# Altium footprint library 19C2830103-JOB.PcbLib: 69 footprints (part 5 of 6)
Each footprint in its own frame and in the unit in brackets; x right, y up, seen from the top. Pads: shape width x height; smd on the part's side, far side on the other; paste and mask are expansions set on the pad; w line width, h text height; cw(c..) or ccw(c..) is an arc to the next point about the centre after c.
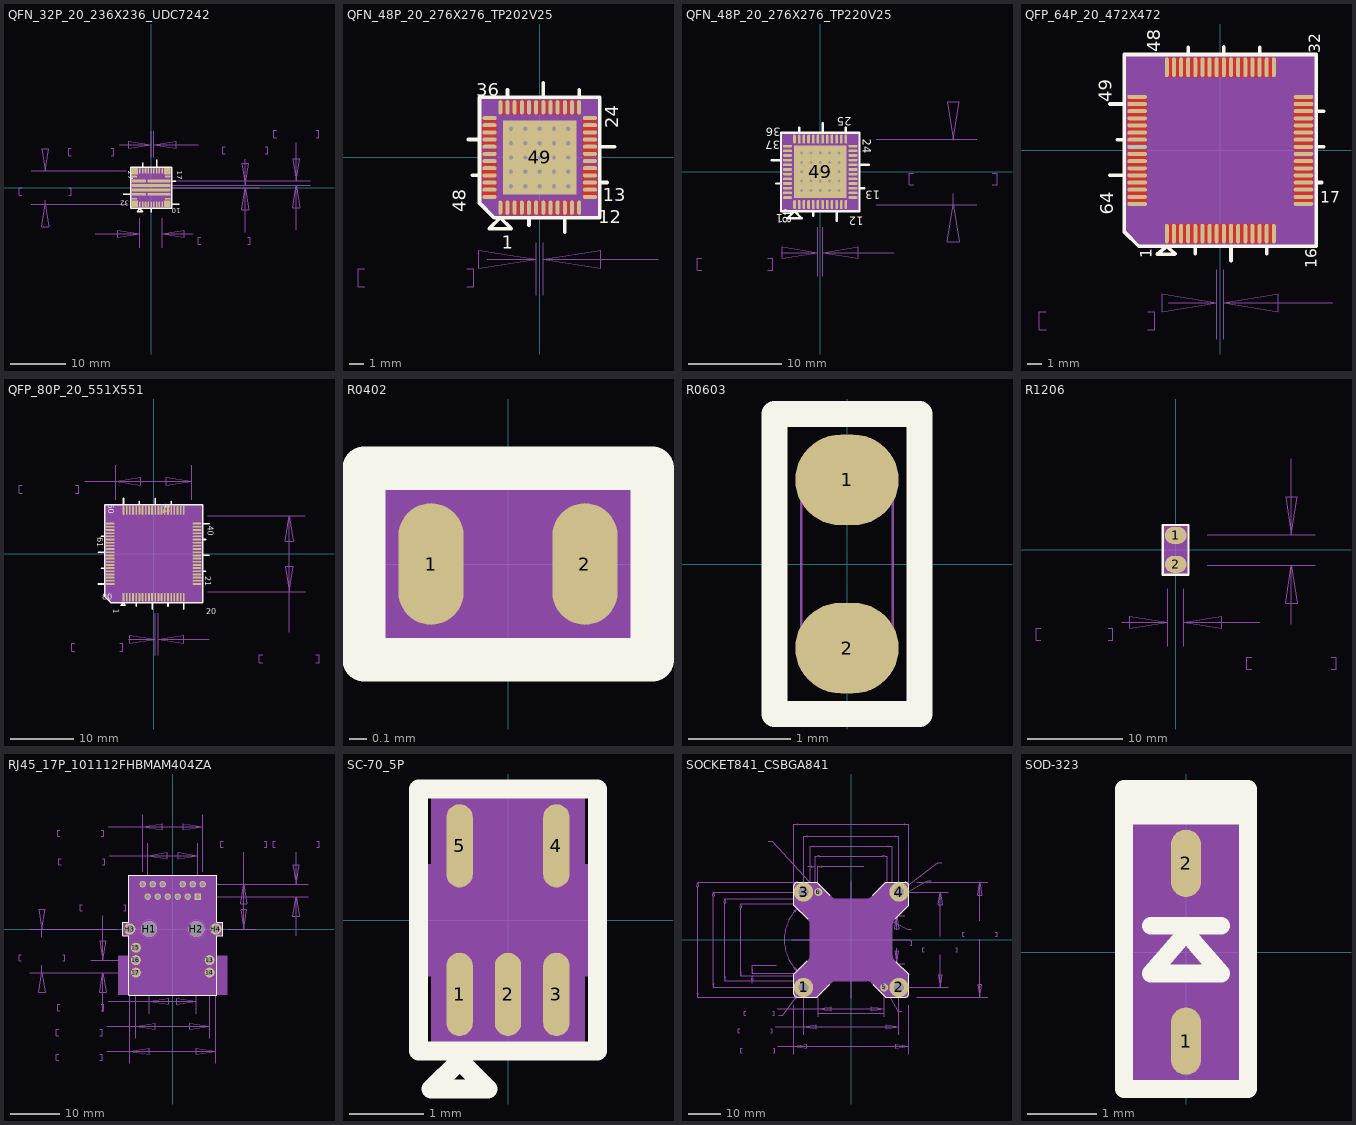
[diagram p4: the footprints below, top view; thin cyan lines are the x and y axes]

## QFN_32P_20_236X236_UDC7242 [mil] "QFN_32P_20_236X236_UDC7242"
pads (32):
  oval 11x39 smd: 1(-78.74,-118.11) 2(-59.06,-118.11) 3(-39.37,-118.11) 4(-19.69,-118.11) 5(0,-118.11) 6(19.69,-118.11) 7(39.37,-118.11) 8(59.06,-118.11) 9(78.74,-118.11) 18(78.74,118.11) 19(59.06,118.11) 20(39.37,118.11) 21(19.69,118.11) 22(0,118.11) 23(-19.69,118.11) 24(-39.37,118.11) 25(-59.06,118.11) 26(-78.74,118.11)
  rect 45x45 smd: 10(115.17,-115.17) 17(115.17,115.17) 27(-115.17,115.17) 32(-115.17,-115.17)
  oval 39x11 smd: 11(118.11,-78.74) 16(118.11,78.74) 28(-118.11,78.74) 31(-118.11,-78.74)
  oval 164x20 smd: 12(55.61,-47.24) 15(55.61,47.24)
  oval 275x20 smd: 13(0,-15.75) 14(0,15.75)
  oval 102x20 smd: 29(-86.61,47.24) 30(-86.61,-47.24)
Top Overlay:
  lines w10: -197.56,-48.06 -145.64,-48.06 ; -59.08,145.73 -59.08,174.89 ; 0.33,-174.45 0.33,-145.3 ; 39.29,145.61 39.29,197.53 ; 145.7,-116.94 197.63,-116.94 ; 145.71,46.92 174.87,46.92 ; -145.61,-145.61 -135.61,-145.61 145.61,-145.61 145.61,-135.61 145.61,145.61 135.61,145.61 -145.61,145.61 -145.61,-145.61 ; -98.74,-170.61 -58.74,-170.61 -78.74,-150.61 -98.74,-170.61
  text "17" at 183.8,120 h36
  text "10" at 208.8,-145 h36
  text "27" at -161.2,120 h36
  text "32" at -156.2,-93 h36
  text ".Designator" at -151.8,27 h36
Mechanical 15:
  text "19" at 79.22,118.11 h25.2
  text "7" at 49.45,-118.11 h25.2
  text "25" at -38.9,118.11 h25.2
  text "2" at -48.98,-118.11 h25.2
  text "1" at -68.66,-118.11 h25.2
  text "9" at 88.82,-118.11 h25.2
  text "29" at -46.29,47.24 h25.2
  text "30" at -46.29,-47.24 h25.2
  text "27" at -74.85,115.17 h25.2
  text "28" at -77.79,78.74 h25.2
  text "32" at -74.85,-115.17 h25.2
  text "31" at -77.79,-78.74 h25.2
  text "26" at -58.58,118.11 h25.2
  text "13" at 40.32,-15.75 h25.2
  text "4" at -9.61,-118.11 h25.2
  text "3" at -29.29,-118.11 h25.2
  text "5" at 10.08,-118.11 h25.2
  text "22" at 20.16,118.11 h25.2
  text "23" at 0.47,118.11 h25.2
  text "24" at -19.21,118.11 h25.2
  text "14" at 40.32,15.75 h25.2
  text "20" at 59.53,118.11 h25.2
  text "6" at 29.77,-118.11 h25.2
  text "12" at 95.93,-47.24 h25.2
  text "10" at 155.49,-115.17 h25.2
  text "11" at 158.43,-78.74 h25.2
  text "8" at 69.14,-118.11 h25.2
  text "15" at 95.93,47.24 h25.2
  text "17" at 155.49,115.17 h25.2
  text "16" at 158.43,78.74 h25.2
  text "21" at 39.85,118.11 h25.2
  text "18" at 98.9,118.11 h25.2
Mechanical 16:
  pour cut-out: -145.61,-145.61 145.61,-145.61 145.61,145.61 -145.61,145.61
  region: -118.11,-118.11 118.11,-118.11 118.11,118.11 -118.11,118.11
  lines w1: -915.55,-52.02 -934.65,-52.02 -934.65,-2.02 -915.55,-2.02 ; -847.84,-118.11 -177.17,-118.11 ; -847.84,118.11 -177.17,118.11 ; -749.42,-89.52 -749.42,-118.11 ; -749.42,135.48 -749.42,118.11 ; -583.29,-52.02 -564.19,-52.02 -564.19,-2.02 -583.29,-2.02 ; -564.08,227.34 -583.17,227.34 -583.17,277.34 -564.08,277.34 ; -393.7,-325.14 -78.74,-325.14 ; -282.99,227.34 -263.9,227.34 -263.9,277.34 -282.99,277.34 ; -226.4,302.34 0,302.34 ; -78.74,-423.56 -78.74,-216.54 ; 0,216.54 0,400.77 ; 19.69,216.54 19.69,400.77 ; 78.74,-423.56 78.74,-216.54 ; 98.99,0.17 764.83,0.17 ; 154.04,47.24 1126.89,47.24 ; 295.15,-325.14 78.74,-325.14 ; 334.65,302.34 19.69,302.34 ; 351.74,-400.14 332.65,-400.14 332.65,-350.14 351.74,-350.14 ; 525.87,239.11 506.77,239.11 506.77,289.11 525.87,289.11 ; 666.41,-314.79 666.41,0.17 ; 666.41,201.61 666.41,15.75 ; 684,-400.14 703.1,-400.14 703.1,-350.14 684,-350.14 ; 764.83,15.75 98.43,15.75 1126.89,15.75 ; 806.95,239.11 826.05,239.11 826.05,289.11 806.95,289.11 ; 887.92,354.5 868.82,354.5 868.82,404.5 887.92,404.5 ; 1028.46,-299.21 1028.46,15.75 ; 1028.46,317 1028.46,47.24 ; 1169,354.5 1188.1,354.5 1188.1,404.5 1169,404.5 ; -749.42,-118.11 -724.81,-275.59 -774.02,-275.59 -749.42,-118.11 ; -749.42,118.11 -774.02,275.59 -724.81,275.59 -749.42,118.11 ; -78.74,-325.14 -236.22,-349.74 -236.22,-300.53 -78.74,-325.14 ; 0,302.34 -157.48,277.74 -157.48,326.95 0,302.34 ; 19.69,302.34 177.17,326.95 177.17,277.74 19.69,302.34 ; 78.74,-325.14 236.22,-300.53 236.22,-349.74 78.74,-325.14 ; 666.41,0.17 691.02,-157.31 641.8,-157.31 666.41,0.17 ; 666.41,15.75 641.8,173.23 691.02,173.23 666.41,15.75 ; 1028.46,15.75 1053.07,-141.73 1003.85,-141.73 1028.46,15.75 ; 1028.46,47.24 1003.85,204.72 1053.07,204.72 1028.46,47.24 ; -118.11,-118.11 -118.11,118.11 118.11,118.11 118.11,-118.11 -118.11,-118.11
Mechanical 17:
  text "0.5" at -493.81,327.34 h50
  text "19.69" at -544.98,227.34 h50
  text "6" at -768.52,47.98 h50
  text "236.22" at -896.46,-52.02 h50
  text "0.4" at 596.14,339.11 h50
  text "15.57" at 544.96,239.11 h50
  text "0.8" at 958.19,454.5 h50
  text "31.50" at 907.01,354.5 h50
  text "4" at 498.78,-300.14 h50
  text "157.48" at 370.83,-400.14 h50
3D body: height 150, standoff 0, extent -118.11,-118.11 118.11,118.11

## QFN_48P_20_276X276_TP202V25 [mil] "QFN_48P_20_276X276_TP202V25"
pads (74):
  oval 11x39 smd: 1(-108.27,-137.8) 2(-88.58,-137.8) 3(-68.9,-137.8) 4(-49.21,-137.8) 5(-29.53,-137.8) 6(-9.84,-137.8) 7(9.84,-137.8) 8(29.53,-137.8) 9(49.21,-137.8) 10(68.9,-137.8) 11(88.58,-137.8) 12(108.27,-137.8) 25(108.27,137.8) 26(88.58,137.8) 27(68.9,137.8) 28(49.21,137.8) 29(29.53,137.8) 30(9.84,137.8) 31(-9.84,137.8) 32(-29.53,137.8) 33(-49.21,137.8) 34(-68.9,137.8) 35(-88.58,137.8) 36(-108.27,137.8)
  oval 39x11 smd: 13(137.8,-108.27) 14(137.8,-88.58) 15(137.8,-68.9) 16(137.8,-49.21) 17(137.8,-29.53) 18(137.8,-9.84) 19(137.8,9.84) 20(137.8,29.53) 21(137.8,49.21) 22(137.8,68.9) 23(137.8,88.58) 24(137.8,108.27) 37(-137.8,108.27) 38(-137.8,88.58) 39(-137.8,68.9) 40(-137.8,49.21) 41(-137.8,29.53) 42(-137.8,9.84) 43(-137.8,-9.84) 44(-137.8,-29.53) 45(-137.8,-49.21) 46(-137.8,-68.9) 47(-137.8,-88.58) 48(-137.8,-108.27)
  rect 202x202 smd: 49(0,0)
  round 22 hole 12: 50(-78.74,-78.74) 51(-39.37,-78.74) 52(0,-78.74) 53(39.37,-78.74) 54(78.74,-78.74) 55(-78.74,-39.37) 56(-39.37,-39.37) 57(0,-39.37) 58(39.37,-39.37) 59(78.74,-39.37) 60(-78.74,0) 61(-39.37,0) 62(0,0) 63(39.37,0) 64(78.74,0) 65(-78.74,39.37) 66(-39.37,39.37) 67(0,39.37) 68(39.37,39.37) 69(78.74,39.37) 70(-78.74,78.74) 71(-39.37,78.74) 72(0,78.74) 73(39.37,78.74) 74(78.74,78.74)
Top Layer:
  lines w1: -98.42,-157.3 -102.77,-157.3 -102.77,-118.3 -98.42,-118.3 ; -98.42,-157.3 -98.42,-118.3 ; -98.42,-157.3 -94.08,-157.3 -94.08,-118.3 -98.42,-118.3 ; -98.42,-157.3 -98.42,-118.3 ; -98.42,118.3 -102.77,118.3 -102.77,157.3 -98.42,157.3 ; -98.42,118.3 -98.42,157.3 ; -98.42,118.3 -94.08,118.3 -94.08,157.3 -98.42,157.3 ; -98.42,118.3 -98.42,157.3 ; -78.74,-157.3 -83.08,-157.3 -83.08,-118.3 -78.74,-118.3 ; -78.74,-157.3 -78.74,-118.3 ; -78.74,-157.3 -74.4,-157.3 -74.4,-118.3 -78.74,-118.3 ; -78.74,-157.3 -78.74,-118.3 ; -78.74,118.3 -83.08,118.3 -83.08,157.3 -78.74,157.3 ; -78.74,118.3 -78.74,157.3 ; -78.74,118.3 -74.4,118.3 -74.4,157.3 -78.74,157.3 ; -78.74,118.3 -78.74,157.3 ; -59.06,-157.3 -63.4,-157.3 -63.4,-118.3 -59.06,-118.3 ; -59.06,-157.3 -59.06,-118.3 ; -59.06,-157.3 -54.71,-157.3 -54.71,-118.3 -59.06,-118.3 ; -59.06,-157.3 -59.06,-118.3 ; -59.06,118.3 -63.4,118.3 -63.4,157.3 -59.06,157.3 ; -59.06,118.3 -59.06,157.3 ; -59.06,118.3 -54.71,118.3 -54.71,157.3 -59.06,157.3 ; -59.06,118.3 -59.06,157.3 ; -19.69,-157.3 -24.03,-157.3 -24.03,-118.3 -19.69,-118.3 ; -19.69,-157.3 -19.69,-118.3 ; -19.69,-157.3 -15.34,-157.3 -15.34,-118.3 -19.69,-118.3 ; -19.69,-157.3 -19.69,-118.3 ; -19.69,118.3 -24.03,118.3 -24.03,157.3 -19.69,157.3 ; -19.69,118.3 -19.69,157.3 ; -19.69,118.3 -15.34,118.3 -15.34,157.3 -19.69,157.3 ; -19.69,118.3 -19.69,157.3 ; 0.01,-157.3 -4.34,-157.3 -4.34,-118.3 0.01,-118.3 ; 0.01,-157.3 0.01,-118.3 ; -0.01,-157.3 4.34,-157.3 4.34,-118.3 -0.01,-118.3 ; -0.01,-157.3 -0.01,-118.3 ; 0.01,118.3 -4.34,118.3 -4.34,157.3 0.01,157.3 ; 0.01,118.3 0.01,157.3 ; -0.01,118.3 4.34,118.3 4.34,157.3 -0.01,157.3 ; -0.01,118.3 -0.01,157.3 ; 19.69,-157.3 15.34,-157.3 15.34,-118.3 19.69,-118.3 ; 19.69,-157.3 19.69,-118.3 ; 19.69,-157.3 24.03,-157.3 24.03,-118.3 19.69,-118.3 ; 19.69,-157.3 19.69,-118.3 ; 19.69,118.3 15.34,118.3 15.34,157.3 19.69,157.3 ; 19.69,118.3 19.69,157.3 ; 19.69,118.3 24.03,118.3 24.03,157.3 19.69,157.3 ; 19.69,118.3 19.69,157.3 ; 59.06,-157.3 54.71,-157.3 54.71,-118.3 59.06,-118.3 ; 59.06,-157.3 59.06,-118.3 ; 59.06,-157.3 63.4,-157.3 63.4,-118.3 59.06,-118.3 ; 59.06,-157.3 59.06,-118.3 ; 59.06,118.3 54.71,118.3 54.71,157.3 59.06,157.3 ; 59.06,118.3 59.06,157.3 ; 59.06,118.3 63.4,118.3 63.4,157.3 59.06,157.3 ; 59.06,118.3 59.06,157.3 ; 78.74,-157.3 74.4,-157.3 74.4,-118.3 78.74,-118.3 ; 78.74,-157.3 78.74,-118.3 ; 78.74,-157.3 83.08,-157.3 83.08,-118.3 78.74,-118.3 ; 78.74,-157.3 78.74,-118.3 ; 78.74,118.3 74.4,118.3 74.4,157.3 78.74,157.3 ; 78.74,118.3 78.74,157.3 ; 78.74,118.3 83.08,118.3 83.08,157.3 78.74,157.3 ; 78.74,118.3 78.74,157.3 ; 98.42,-157.3 94.08,-157.3 94.08,-118.3 98.42,-118.3 ; 98.42,-157.3 98.42,-118.3 ; 98.42,-157.3 102.77,-157.3 102.77,-118.3 98.42,-118.3 ; 98.42,-157.3 98.42,-118.3 ; 98.42,118.3 94.08,118.3 94.08,157.3 98.42,157.3 ; 98.42,118.3 98.42,157.3 ; 98.42,118.3 102.77,118.3 102.77,157.3 98.42,157.3 ; 98.42,118.3 98.42,157.3 ; -157.3,-102.77 -118.3,-102.77 -118.3,-97.44 -157.3,-97.44 -157.3,-102.77 ; -157.3,-99.4 -118.3,-99.4 -118.3,-94.08 -157.3,-94.08 -157.3,-99.4 ; -157.3,-83.08 -118.3,-83.08 -118.3,-77.76 -157.3,-77.76 -157.3,-83.08 ; -157.3,-79.73 -118.3,-79.73 -118.3,-74.4 -157.3,-74.4 -157.3,-79.73 ; -157.3,-63.4 -118.3,-63.4 -118.3,-58.08 -157.3,-58.08 -157.3,-63.4 ; -157.3,-60.04 -118.3,-60.04 -118.3,-54.71 -157.3,-54.71 -157.3,-60.04 ; -157.3,-43.71 -118.3,-43.71 -118.3,-38.39 -157.3,-38.39 -157.3,-43.71 ; -157.3,-40.36 -118.3,-40.36 -118.3,-35.03 -157.3,-35.03 -157.3,-40.36 ; -157.3,-24.03 -118.3,-24.03 -118.3,-18.71 -157.3,-18.71 -157.3,-24.03 ; -157.3,-20.66 -118.3,-20.66 -118.3,-15.34 -157.3,-15.34 -157.3,-20.66 ; -157.3,-4.34 -118.3,-4.34 -118.3,0.98 -157.3,0.98 -157.3,-4.34 ; -157.3,18.71 -118.3,18.71 -118.3,24.03 -157.3,24.03 -157.3,18.71 ; -157.3,35.03 -118.3,35.03 -118.3,40.36 -157.3,40.36 -157.3,35.03 ; -157.3,38.39 -118.3,38.39 -118.3,43.71 -157.3,43.71 -157.3,38.39 ; -157.3,54.71 -118.3,54.71 -118.3,60.04 -157.3,60.04 -157.3,54.71 ; -157.3,58.08 -118.3,58.08 -118.3,63.4 -157.3,63.4 -157.3,58.08 ; -157.3,74.4 -118.3,74.4 -118.3,79.73 -157.3,79.73 -157.3,74.4 ; -157.3,77.76 -118.3,77.76 -118.3,83.08 -157.3,83.08 -157.3,77.76 ; -157.3,94.08 -118.3,94.08 -118.3,99.4 -157.3,99.4 -157.3,94.08 ; -157.3,97.44 -118.3,97.44 -118.3,102.77 -157.3,102.77 -157.3,97.44 ; -43.71,-157.3 -39.36,-157.3 -39.36,-118.3 -43.71,-118.3 -43.71,-157.3 ; -43.71,118.3 -39.36,118.3 -39.36,157.3 -43.71,157.3 -43.71,118.3 ; -39.38,-157.3 -35.03,-157.3 -35.03,-118.3 -39.38,-118.3 -39.38,-157.3 ; -39.38,118.3 -35.03,118.3 -35.03,157.3 -39.38,157.3 -39.38,118.3 ; 35.03,-157.3 39.38,-157.3 39.38,-118.3 35.03,-118.3 35.03,-157.3 ; 35.03,118.3 39.38,118.3 39.38,157.3 35.03,157.3 35.03,118.3 ; 39.36,-157.3 43.71,-157.3 43.71,-118.3 39.36,-118.3 39.36,-157.3 ; 39.36,118.3 43.71,118.3 43.71,157.3 39.36,157.3 39.36,118.3 ; 118.3,-102.77 157.3,-102.77 157.3,-97.44 118.3,-97.44 118.3,-102.77 ; 118.3,-99.4 157.3,-99.4 157.3,-94.08 118.3,-94.08 118.3,-99.4 ; 118.3,-83.08 157.3,-83.08 157.3,-77.76 118.3,-77.76 118.3,-83.08 ; 118.3,-79.73 157.3,-79.73 157.3,-74.4 118.3,-74.4 118.3,-79.73 ; 118.3,-63.4 157.3,-63.4 157.3,-58.08 118.3,-58.08 118.3,-63.4 ; 118.3,-60.04 157.3,-60.04 157.3,-54.71 118.3,-54.71 118.3,-60.04 ; 118.3,-43.71 157.3,-43.71 157.3,-38.39 118.3,-38.39 118.3,-43.71 ; 118.3,-40.36 157.3,-40.36 157.3,-35.03 118.3,-35.03 118.3,-40.36 ; 118.3,-24.03 157.3,-24.03 157.3,-18.71 118.3,-18.71 118.3,-24.03 ; 118.3,-0.98 157.3,-0.98 157.3,4.34 118.3,4.34 118.3,-0.98 ; 118.3,15.34 157.3,15.34 157.3,20.66 118.3,20.66 118.3,15.34 ; 118.3,18.71 157.3,18.71 157.3,24.03 118.3,24.03 118.3,18.71 ; 118.3,35.03 157.3,35.03 157.3,40.36 118.3,40.36 118.3,35.03 ; 118.3,38.39 157.3,38.39 157.3,43.71 118.3,43.71 118.3,38.39 ; 118.3,54.71 157.3,54.71 157.3,60.04 118.3,60.04 118.3,54.71 ; 118.3,58.08 157.3,58.08 157.3,63.4 118.3,63.4 118.3,58.08 ; 118.3,74.4 157.3,74.4 157.3,79.73 118.3,79.73 118.3,74.4 ; 118.3,77.76 157.3,77.76 157.3,83.08 118.3,83.08 118.3,77.76 ; 118.3,94.08 157.3,94.08 157.3,99.4 118.3,99.4 118.3,94.08 ; 118.3,97.44 157.3,97.44 157.3,102.77 118.3,102.77 118.3,97.44
Top Overlay:
  lines w10: -196,49.21 -165.3,49.21 ; -185.3,-49.21 -165.3,-49.21 ; -88.58,165.3 -88.58,185.3 ; -29.53,-185.3 -29.53,-165.3 ; 9.84,165.3 9.84,205.3 ; 68.9,-205.3 68.9,-165.3 ; 108.27,165.3 108.27,185.3 ; 165.3,-68.9 185.3,-68.9 ; 165.3,29.53 205.3,29.53 ; -165.3,-125.3 -165.3,165.3 -155.3,165.3 165.3,165.3 165.3,155.3 165.3,-165.3 155.3,-165.3 -125.3,-165.3 -165.3,-125.3 ; -138.27,-195.3 -78.27,-195.3 -108.27,-165.3 -138.27,-195.3
  text "48" at -202.6,-150 h36
  text "1" at -104.4,-250 h36
  text "12" at 161.2,-180.33 h36
  text "24" at 215,80 h36
  text "13" at 173,-120.33 h36
  text "36" at -173.8,168 h36
  text ".Designator" at -253.2,-142 h36
Mechanical 15:
  text "2" at -99.78,-137.8 h28
  text "46" at -160.2,-68.9 h28
  text "1" at -119.47,-137.8 h28
  text "34" at -91.3,137.8 h28
  text "5" at -40.73,-137.8 h28
  text "31" at -32.24,137.8 h28
  text "30" at -12.56,137.8 h28
  text "28" at 26.81,137.8 h28
  text "29" at 7.13,137.8 h28
  text "27" at 46.5,137.8 h28
  text "39" at -160.2,68.9 h28
  text "3" at -80.1,-137.8 h28
  text "42" at -160.2,9.84 h28
  text "40" at -160.2,49.21 h28
  text "26" at 66.18,137.8 h28
  text "15" at 115.4,-68.9 h28
  text "14" at 115.4,-88.58 h28
  text "8" at 18.33,-137.8 h28
  text "9" at 38.01,-137.8 h28
  text "24" at 115.4,108.27 h28
  text "23" at 115.4,88.58 h28
  text "22" at 115.4,68.9 h28
  text "37" at -160.2,108.27 h28
  text "33" at -71.61,137.8 h28
  text "4" at -60.41,-137.8 h28
  text "7" at -1.36,-137.8 h28
  text "21" at 115.4,49.21 h28
  text "18" at 115.4,-9.84 h28
  text "16" at 115.4,-49.21 h28
  text "13" at 115.4,-108.27 h28
  text "25" at 85.87,137.8 h28
  text "12" at 85.87,-137.8 h28
  text "11" at 66.18,-137.8 h28
  text "20" at 115.4,29.53 h28
  text "10" at 46.5,-137.8 h28
  text "19" at 115.4,9.84 h28
  text "17" at 115.4,-29.53 h28
  text "43" at -160.2,-9.84 h28
  text "44" at -160.2,-29.53 h28
  text "48" at -160.2,-108.27 h28
  text "35" at -110.98,137.8 h28
  text "47" at -160.2,-88.58 h28
  text "36" at -130.67,137.8 h28
  text "32" at -51.93,137.8 h28
  text "72" at -22.4,78.74 h28
  text "49" at -22.4,0 h28
  text "71" at -61.77,78.74 h28
  text "67" at -22.4,39.37 h28
  text "66" at -61.77,39.37 h28
  text "65" at -101.14,39.37 h28
  text "70" at -101.14,78.74 h28
  text "69" at 56.34,39.37 h28
  text "68" at 16.97,39.37 h28
  text "61" at -61.77,0 h28
  text "60" at -101.14,0 h28
  text "59" at 56.34,-39.37 h28
  text "64" at 56.34,0 h28
  text "63" at 16.97,0 h28
  text "62" at -22.4,0 h28
  text "55" at -101.14,-39.37 h28
  text "54" at 56.34,-78.74 h28
  text "53" at 16.97,-78.74 h28
  text "58" at 16.97,-39.37 h28
  text "57" at -22.4,-39.37 h28
  text "56" at -61.77,-39.37 h28
  text "52" at -22.4,-78.74 h28
  text "51" at -61.77,-78.74 h28
  text "50" at -101.14,-78.74 h28
  text "73" at 16.97,78.74 h28
  text "74" at 56.34,78.74 h28
  text "6" at -21.04,-137.8 h28
  text "38" at -160.2,88.58 h28
  text "45" at -160.2,-49.21 h28
  text "41" at -160.2,29.53 h28
Mechanical 16:
  pour cut-out: -125.3,-165.3 165.3,-165.3 165.3,165.3 -165.3,165.3 -165.3,-125.3
  lines w1: -480,-355 -499,-355 -499,-305 -480,-305 ; -200,-355 -181,-355 -181,-305 -200,-305 ; -143.5,-280 -9.84,-280 ; -9.84,-378.43 -9.84,-233.59 ; 9.84,-378.43 9.84,-233.59 ; 324.8,-280 9.84,-280 ; -137.8,-137.8 137.8,-137.8 ; -137.8,-137.8 -137.8,137.8 ; -137.8,-137.8 -137.8,137.8 ; -137.8,-137.8 137.8,-137.8 ; -137.8,137.8 137.8,137.8 ; -137.8,137.8 137.8,137.8 ; -9.84,-280 -167.32,-304.61 -167.32,-255.39 -9.84,-280 ; 9.84,-280 167.32,-255.39 167.32,-304.61 9.84,-280 ; 137.8,-137.8 137.8,137.8 ; 137.8,-137.8 137.8,137.8
Mechanical 17:
  text "0.5" at -410,-255 h36
  text "19.69" at -461,-355 h36

## QFN_48P_20_276X276_TP220V25 [mil] "QFN_48P_20_276X276_TP220V25"
pads (74):
  oval 11x39 smd: 1(-108.27,-137.8) 2(-88.58,-137.8) 3(-68.9,-137.8) 4(-49.21,-137.8) 5(-29.53,-137.8) 6(-9.84,-137.8) 7(9.84,-137.8) 8(29.53,-137.8) 9(49.21,-137.8) 10(68.9,-137.8) 11(88.58,-137.8) 12(108.27,-137.8) 25(108.27,137.8) 26(88.58,137.8) 27(68.9,137.8) 28(49.21,137.8) 29(29.53,137.8) 30(9.84,137.8) 31(-9.84,137.8) 32(-29.53,137.8) 33(-49.21,137.8) 34(-68.9,137.8) 35(-88.58,137.8) 36(-108.27,137.8)
  oval 39x11 smd: 13(137.8,-108.27) 14(137.8,-88.58) 15(137.8,-68.9) 16(137.8,-49.21) 17(137.8,-29.53) 18(137.8,-9.84) 19(137.8,9.84) 20(137.8,29.53) 21(137.8,49.21) 22(137.8,68.9) 23(137.8,88.58) 24(137.8,108.27) 37(-137.8,108.27) 38(-137.8,88.58) 39(-137.8,68.9) 40(-137.8,49.21) 41(-137.8,29.53) 42(-137.8,9.84) 43(-137.8,-9.84) 44(-137.8,-29.53) 45(-137.8,-49.21) 46(-137.8,-68.9) 47(-137.8,-88.58) 48(-137.8,-108.27)
  rect 220x220 smd: 49(0,0)
  round 22 hole 12: 50(-78.74,-78.74) 51(-39.37,-78.74) 52(0,-78.74) 53(39.37,-78.74) 54(78.74,-78.74) 55(-78.74,-39.37) 56(-39.37,-39.37) 57(0,-39.37) 58(39.37,-39.37) 59(78.74,-39.37) 60(-78.74,0) 61(-39.37,0) 62(0,0) 63(39.37,0) 64(78.74,0) 65(-78.74,39.37) 66(-39.37,39.37) 67(0,39.37) 68(39.37,39.37) 69(78.74,39.37) 70(-78.74,78.74) 71(-39.37,78.74) 72(0,78.74) 73(39.37,78.74) 74(78.74,78.74)
Top Overlay:
  lines w10: -205.3,49.21 -165.3,49.21 ; -185.3,-49.21 -165.3,-49.21 ; -88.58,165.3 -88.58,185.3 ; -29.53,-185.3 -29.53,-165.3 ; 9.84,165.3 9.84,205.3 ; 68.9,-205.3 68.9,-165.3 ; 108.27,165.3 108.27,185.3 ; 165.3,-68.9 185.3,-68.9 ; 165.3,29.53 205.3,29.53 ; -165.3,-165.3 155.3,-165.3 165.3,-165.3 165.3,155.3 165.3,165.3 -155.3,165.3 -165.3,165.3 -165.3,-165.3 ; -138.27,-195.3 -78.27,-195.3 -108.27,-165.3 -138.27,-195.3
  text "37" at -167.4,130 h36
  text "48" at -157.4,-155 h36
  text "1" at -155.6,-179.66 h36
  text "12" at 183.8,-189.66 h36
  text "24" at 180,140 h36
  text "13" at 252,-79.66 h36
  text "25" at 132.8,229 h36
  text "36" at -166.2,185 h36
  text ".Designator" at 342.6,122 h36
Mechanical 15:
  text "2" at -77.38,-137.8 h28
  text "3" at -57.7,-137.8 h28
  text "46" at -115.4,-68.9 h28
  text "45" at -115.4,-49.21 h28
  text "7" at 21.04,-137.8 h28
  text "6" at 1.36,-137.8 h28
  text "19" at 160.2,9.84 h28
  text "20" at 160.2,29.53 h28
  text "37" at -115.4,108.27 h28
  text "35" at -66.18,137.8 h28
  text "34" at -46.5,137.8 h28
  text "42" at -115.4,9.84 h28
  text "39" at -115.4,68.9 h28
  text "5" at -18.33,-137.8 h28
  text "15" at 160.2,-68.9 h28
  text "18" at 160.2,-9.84 h28
  text "11" at 110.98,-137.8 h28
  text "26" at 110.98,137.8 h28
  text "21" at 160.2,49.21 h28
  text "1" at -97.07,-137.8 h28
  text "44" at -115.4,-29.53 h28
  text "8" at 40.73,-137.8 h28
  text "47" at -115.4,-88.58 h28
  text "32" at -7.13,137.8 h28
  text "29" at 51.93,137.8 h28
  text "16" at 160.2,-49.21 h28
  text "17" at 160.2,-29.53 h28
  text "12" at 130.67,-137.8 h28
  text "27" at 91.3,137.8 h28
  text "28" at 71.61,137.8 h28
  text "9" at 60.41,-137.8 h28
  text "10" at 91.3,-137.8 h28
  text "31" at 12.56,137.8 h28
  text "48" at -115.4,-108.27 h28
  text "4" at -38.01,-137.8 h28
  text "38" at -115.4,88.58 h28
  text "30" at 32.24,137.8 h28
  text "33" at -26.81,137.8 h28
  text "36" at -85.87,137.8 h28
  text "74" at 73.54,78.74 h28
  text "49" at -5.2,0 h28
  text "73" at 34.17,78.74 h28
  text "69" at 73.54,39.37 h28
  text "68" at 34.17,39.37 h28
  text "72" at -5.2,78.74 h28
  text "67" at -5.2,39.37 h28
  text "71" at -44.57,78.74 h28
  text "70" at -83.94,78.74 h28
  text "66" at -44.57,39.37 h28
  text "65" at -83.94,39.37 h28
  text "64" at 73.54,0 h28
  text "63" at 34.17,0 h28
  text "59" at 73.54,-39.37 h28
  text "58" at 34.17,-39.37 h28
  text "54" at 73.54,-78.74 h28
  text "53" at 34.17,-78.74 h28
  text "62" at -5.2,0 h28
  text "57" at -5.2,-39.37 h28
  text "52" at -5.2,-78.74 h28
  text "61" at -44.57,0 h28
  text "60" at -83.94,0 h28
  text "56" at -44.57,-39.37 h28
  text "55" at -83.94,-39.37 h28
  text "51" at -44.57,-78.74 h28
  text "50" at -83.94,-78.74 h28
  text "22" at 160.2,68.9 h28
  text "23" at 160.2,88.58 h28
  text "25" at 130.67,137.8 h28
  text "24" at 160.2,108.27 h28
  text "43" at -115.4,-9.84 h28
  text "41" at -115.4,29.53 h28
  text "40" at -115.4,49.21 h28
  text "13" at 160.2,-108.27 h28
  text "14" at 160.2,-88.58 h28
Mechanical 16:
  pour cut-out: -165.3,-165.3 165.3,-165.3 165.3,165.3 -165.3,165.3
  region: -137.8,-137.8 137.8,-137.8 137.8,137.8 -137.8,137.8
  lines w1: -500,-415 -519,-415 -519,-365 -500,-365 ; -220,-415 -201,-415 -201,-365 -220,-365 ; -163.5,-340 -9.84,-340 ; -9.84,-440 -9.84,-233.86 ; 9.84,-440 9.84,-233.86 ; 236.23,-137.8 658.43,-137.8 ; 236.23,137.8 658.43,137.8 ; 309.84,-340 9.84,-340 ; 394.5,-55 375.5,-55 375.5,-5 394.5,-5 ; 560,-92.5 560,-137.8 ; 560,132.5 560,137.8 ; 725.5,-55 744.5,-55 744.5,-5 725.5,-5 ; -9.84,-340 -159.84,-365 -159.84,-315 -9.84,-340 ; 9.84,-340 159.84,-315 159.84,-365 9.84,-340 ; 560,-137.8 584.6,-295.28 535.4,-295.28 560,-137.8 ; 560,137.8 535.4,295.28 584.6,295.28 560,137.8 ; -137.8,-137.8 -137.8,137.8 137.8,137.8 137.8,-137.8 -137.8,-137.8
Mechanical 17:
  text "0.5" at -430,-315 h36
  text "19.69" at -481,-415 h36
  text "7" at 541,45 h36
  text "275.60" at 413.5,-55 h36
3D body: height 150, standoff 0, extent -137.8,-137.8 137.8,137.8

## QFP_64P_20_472X472 [mil] "QFP_64P_20_472X472"
pads (64):
  oval 11x54 smd: 1(-147.64,-229.41) 2(-127.95,-229.41) 3(-108.27,-229.41) 4(-88.58,-229.41) 5(-68.9,-229.41) 6(-49.21,-229.41) 7(-29.53,-229.41) 8(-9.84,-229.41) 9(9.84,-229.41) 10(29.53,-229.41) 11(49.21,-229.41) 12(68.9,-229.41) 13(88.58,-229.41) 14(108.27,-229.41) 15(127.95,-229.41) 16(147.64,-229.41) 33(147.64,229.41) 34(127.95,229.41) 35(108.27,229.41) 36(88.58,229.41) 37(68.9,229.41) 38(49.21,229.41) 39(29.53,229.41) 40(9.84,229.41) 41(-9.84,229.41) 42(-29.53,229.41) 43(-49.21,229.41) 44(-68.9,229.41) 45(-88.58,229.41) 46(-108.27,229.41) 47(-127.95,229.41) 48(-147.64,229.41)
  oval 54x11 smd: 17(229.41,-147.64) 18(229.41,-127.95) 19(229.41,-108.27) 20(229.41,-88.58) 21(229.41,-68.9) 22(229.41,-49.21) 23(229.41,-29.53) 24(229.41,-9.84) 25(229.41,9.84) 26(229.41,29.53) 27(229.41,49.21) 28(229.41,68.9) 29(229.41,88.58) 30(229.41,108.27) 31(229.41,127.95) 32(229.41,147.64) 49(-229.41,147.64) 50(-229.41,127.95) 51(-229.41,108.27) 52(-229.41,88.58) 53(-229.41,68.9) 54(-229.41,49.21) 55(-229.41,29.53) 56(-229.41,9.84) 57(-229.41,-9.84) 58(-229.41,-29.53) 59(-229.41,-49.21) 60(-229.41,-68.9) 61(-229.41,-88.58) 62(-229.41,-108.27) 63(-229.41,-127.95) 64(-229.41,-147.64)
Top Layer:
  region: -256.41,137.1 -202.41,137.1 -202.41,142.14 -256.41,142.14
  region: -256.41,117.4 -202.41,117.4 -202.41,122.45 -256.41,122.45
  region: -256.41,133.45 -202.41,133.45 -202.41,138.5 -256.41,138.5
  region: -256.41,97.72 -202.41,97.72 -202.41,102.77 -256.41,102.77
  region: -256.41,113.77 -202.41,113.77 -202.41,118.82 -256.41,118.82
  region: -256.41,78.04 -202.41,78.04 -202.41,83.08 -256.41,83.08
  region: -256.41,94.08 -202.41,94.08 -202.41,99.12 -256.41,99.12
  region: -256.41,58.36 -202.41,58.36 -202.41,63.4 -256.41,63.4
  region: -256.41,74.4 -202.41,74.4 -202.41,79.45 -256.41,79.45
  region: -256.41,38.66 -202.41,38.66 -202.41,43.71 -256.41,43.71
  region: -256.41,54.71 -202.41,54.71 -202.41,59.76 -256.41,59.76
  region: -256.41,18.98 -202.41,18.98 -202.41,24.03 -256.41,24.03
  region: -256.41,35.03 -202.41,35.03 -202.41,40.08 -256.41,40.08
  region: -256.41,-20.38 -202.41,-20.38 -202.41,-15.34 -256.41,-15.34
  region: -256.41,-4.34 -202.41,-4.34 -202.41,0.7 -256.41,0.7
  region: -256.41,-40.08 -202.41,-40.08 -202.41,-35.03 -256.41,-35.03
  region: -256.41,-24.03 -202.41,-24.03 -202.41,-18.98 -256.41,-18.98
  region: -256.41,-59.76 -202.41,-59.76 -202.41,-54.71 -256.41,-54.71
  region: -256.41,-43.71 -202.41,-43.71 -202.41,-38.66 -256.41,-38.66
  region: -256.41,-79.45 -202.41,-79.45 -202.41,-74.4 -256.41,-74.4
  region: -256.41,-63.4 -202.41,-63.4 -202.41,-58.36 -256.41,-58.36
  region: -256.41,-99.12 -202.41,-99.12 -202.41,-94.08 -256.41,-94.08
  region: -256.41,-83.08 -202.41,-83.08 -202.41,-78.04 -256.41,-78.04
  region: -256.41,-118.82 -202.41,-118.82 -202.41,-113.77 -256.41,-113.77
  region: -256.41,-102.77 -202.41,-102.77 -202.41,-97.72 -256.41,-97.72
  region: -256.41,-138.5 -202.41,-138.5 -202.41,-133.45 -256.41,-133.45
  region: -256.41,-122.45 -202.41,-122.45 -202.41,-117.4 -256.41,-117.4
  region: -256.41,-142.14 -202.41,-142.14 -202.41,-137.1 -256.41,-137.1
  region: 202.41,137.1 256.41,137.1 256.41,142.14 202.41,142.14
  region: 202.41,117.4 256.41,117.4 256.41,122.45 202.41,122.45
  region: 202.41,133.45 256.41,133.45 256.41,138.5 202.41,138.5
  region: 202.41,97.72 256.41,97.72 256.41,102.77 202.41,102.77
  region: 202.41,113.77 256.41,113.77 256.41,118.82 202.41,118.82
  region: 202.41,78.04 256.41,78.04 256.41,83.08 202.41,83.08
  region: 202.41,94.08 256.41,94.08 256.41,99.12 202.41,99.12
  region: 202.41,58.36 256.41,58.36 256.41,63.4 202.41,63.4
  region: 202.41,74.4 256.41,74.4 256.41,79.45 202.41,79.45
  region: 202.41,38.66 256.41,38.66 256.41,43.71 202.41,43.71
  region: 202.41,54.71 256.41,54.71 256.41,59.76 202.41,59.76
  region: 202.41,18.98 256.41,18.98 256.41,24.03 202.41,24.03
  region: 202.41,35.03 256.41,35.03 256.41,40.08 202.41,40.08
  region: 202.41,-0.7 256.41,-0.7 256.41,4.34 202.41,4.34
  region: 202.41,15.34 256.41,15.34 256.41,20.38 202.41,20.38
  region: 202.41,-40.08 256.41,-40.08 256.41,-35.03 202.41,-35.03
  region: 202.41,-24.03 256.41,-24.03 256.41,-18.98 202.41,-18.98
  region: 202.41,-59.76 256.41,-59.76 256.41,-54.71 202.41,-54.71
  region: 202.41,-43.71 256.41,-43.71 256.41,-38.66 202.41,-38.66
  region: 202.41,-79.45 256.41,-79.45 256.41,-74.4 202.41,-74.4
  region: 202.41,-63.4 256.41,-63.4 256.41,-58.36 202.41,-58.36
  region: 202.41,-99.12 256.41,-99.12 256.41,-94.08 202.41,-94.08
  region: 202.41,-83.08 256.41,-83.08 256.41,-78.04 202.41,-78.04
  region: 202.41,-118.82 256.41,-118.82 256.41,-113.77 202.41,-113.77
  region: 202.41,-102.77 256.41,-102.77 256.41,-97.72 202.41,-97.72
  region: 202.41,-138.5 256.41,-138.5 256.41,-133.45 202.41,-133.45
  region: 202.41,-122.45 256.41,-122.45 256.41,-117.4 202.41,-117.4
  region: 202.41,-142.14 256.41,-142.14 256.41,-137.1 202.41,-137.1
  region: 137.79,202.41 142.14,202.41 142.14,256.41 137.79,256.41
  region: 133.45,202.41 137.8,202.41 137.8,256.41 133.45,256.41
  region: 118.1,202.41 122.45,202.41 122.45,256.41 118.1,256.41
  region: 113.77,202.41 118.12,202.41 118.12,256.41 113.77,256.41
  region: 98.42,202.41 102.77,202.41 102.77,256.41 98.42,256.41
  region: 94.08,202.41 98.42,202.41 98.42,256.41 94.08,256.41
  region: 78.74,202.41 83.08,202.41 83.08,256.41 78.74,256.41
  region: 74.4,202.41 78.74,202.41 78.74,256.41 74.4,256.41
  region: 59.06,202.41 63.4,202.41 63.4,256.41 59.06,256.41
  region: 54.71,202.41 59.06,202.41 59.06,256.41 54.71,256.41
  region: 39.36,202.41 43.71,202.41 43.71,256.41 39.36,256.41
  region: 35.03,202.41 39.38,202.41 39.38,256.41 35.03,256.41
  region: 19.69,202.41 24.03,202.41 24.03,256.41 19.69,256.41
  region: 15.34,202.41 19.69,202.41 19.69,256.41 15.34,256.41
  region: -0.01,202.41 4.34,202.41 4.34,256.41 -0.01,256.41
  region: -4.34,202.41 0.01,202.41 0.01,256.41 -4.34,256.41
  region: -19.69,202.41 -15.34,202.41 -15.34,256.41 -19.69,256.41
  region: -24.03,202.41 -19.69,202.41 -19.69,256.41 -24.03,256.41
  region: -39.38,202.41 -35.03,202.41 -35.03,256.41 -39.38,256.41
  region: -43.71,202.41 -39.36,202.41 -39.36,256.41 -43.71,256.41
  region: -59.06,202.41 -54.71,202.41 -54.71,256.41 -59.06,256.41
  region: -63.4,202.41 -59.06,202.41 -59.06,256.41 -63.4,256.41
  region: -78.74,202.41 -74.4,202.41 -74.4,256.41 -78.74,256.41
  region: -83.08,202.41 -78.74,202.41 -78.74,256.41 -83.08,256.41
  region: -98.42,202.41 -94.08,202.41 -94.08,256.41 -98.42,256.41
  region: -102.77,202.41 -98.42,202.41 -98.42,256.41 -102.77,256.41
  region: -118.12,202.41 -113.77,202.41 -113.77,256.41 -118.12,256.41
  region: -122.45,202.41 -118.1,202.41 -118.1,256.41 -122.45,256.41
  region: -137.8,202.41 -133.45,202.41 -133.45,256.41 -137.8,256.41
  region: -142.14,202.41 -137.79,202.41 -137.79,256.41 -142.14,256.41
  region: 137.79,-256.41 142.14,-256.41 142.14,-202.41 137.79,-202.41
  region: 133.45,-256.41 137.8,-256.41 137.8,-202.41 133.45,-202.41
  region: 118.1,-256.41 122.45,-256.41 122.45,-202.41 118.1,-202.41
  region: 113.77,-256.41 118.12,-256.41 118.12,-202.41 113.77,-202.41
  region: 98.42,-256.41 102.77,-256.41 102.77,-202.41 98.42,-202.41
  region: 94.08,-256.41 98.42,-256.41 98.42,-202.41 94.08,-202.41
  region: 78.74,-256.41 83.08,-256.41 83.08,-202.41 78.74,-202.41
  region: 74.4,-256.41 78.74,-256.41 78.74,-202.41 74.4,-202.41
  region: 59.06,-256.41 63.4,-256.41 63.4,-202.41 59.06,-202.41
  region: 54.71,-256.41 59.06,-256.41 59.06,-202.41 54.71,-202.41
  region: 39.36,-256.41 43.71,-256.41 43.71,-202.41 39.36,-202.41
  region: 35.03,-256.41 39.38,-256.41 39.38,-202.41 35.03,-202.41
  region: 19.69,-256.41 24.03,-256.41 24.03,-202.41 19.69,-202.41
  region: 15.34,-256.41 19.69,-256.41 19.69,-202.41 15.34,-202.41
  region: -0.01,-256.41 4.34,-256.41 4.34,-202.41 -0.01,-202.41
  region: -4.34,-256.41 0.01,-256.41 0.01,-202.41 -4.34,-202.41
  region: -19.69,-256.41 -15.34,-256.41 -15.34,-202.41 -19.69,-202.41
  region: -24.03,-256.41 -19.69,-256.41 -19.69,-202.41 -24.03,-202.41
  region: -39.38,-256.41 -35.03,-256.41 -35.03,-202.41 -39.38,-202.41
  region: -43.71,-256.41 -39.36,-256.41 -39.36,-202.41 -43.71,-202.41
  region: -59.06,-256.41 -54.71,-256.41 -54.71,-202.41 -59.06,-202.41
  region: -63.4,-256.41 -59.06,-256.41 -59.06,-202.41 -63.4,-202.41
  region: -78.74,-256.41 -74.4,-256.41 -74.4,-202.41 -78.74,-202.41
  region: -83.08,-256.41 -78.74,-256.41 -78.74,-202.41 -83.08,-202.41
  region: -98.42,-256.41 -94.08,-256.41 -94.08,-202.41 -98.42,-202.41
  region: -102.77,-256.41 -98.42,-256.41 -98.42,-202.41 -102.77,-202.41
  region: -118.12,-256.41 -113.77,-256.41 -113.77,-202.41 -118.12,-202.41
  region: -122.45,-256.41 -118.1,-256.41 -118.1,-202.41 -122.45,-202.41
  region: -137.8,-256.41 -133.45,-256.41 -133.45,-202.41 -137.8,-202.41
  region: -142.14,-256.41 -137.79,-256.41 -137.79,-202.41 -142.14,-202.41
Top Overlay:
  lines w10: -304.41,-68.9 -264.41,-68.9 ; -304.41,127.95 -264.41,127.95 ; -284.41,29.53 -264.41,29.53 ; -126,-286 -174,-286 -147.64,-264.41 -125,-285 ; -88.58,264.41 -88.58,284.41 ; -68.9,-284.41 -68.9,-264.41 ; 9.84,264.41 9.84,285 ; 29.53,-304.41 29.53,-264.41 ; 108.27,264.41 108.27,284.41 ; 127.95,-284.41 127.95,-264.41 ; 264.41,-88.58 280,-88.58 ; 264.41,9.84 284.41,9.84 ; 264.41,108.27 285,108.27 ; -264.41,-225.04 -225.04,-264.41 -185.67,-264.41 264.41,-264.41 264.41,-225.04 264.41,264.41 225.04,264.41 -264.41,264.41 -264.41,-225.04
  text "48" at -165,271.2 h36
  text "17" at 275,-145 h31
  text "32" at 275.33,268 h31
  text "16" at 265.33,-324.8 h31
  text "1" at -189.67,-297.4 h31
  text "64" at -295,-177.6 h36
  text "49" at -300,132.4 h36
Mechanical 15:
  text "14" at 108.27,-251.81 h28
  text "49" at -229.41,125.24 h28
  text "50" at -229.41,105.55 h28
  text "9" at 9.84,-240.61 h28
  text "4" at -88.58,-240.61 h28
  text "42" at -29.53,207.01 h28
  text "20" at 229.41,-110.98 h28
  text "56" at -229.41,-12.56 h28
  text "31" at 229.41,105.55 h28
  text "37" at 68.9,207.01 h28
  text "12" at 68.9,-251.81 h28
  text "64" at -229.41,-170.04 h28
  text "8" at -9.84,-240.61 h28
  text "7" at -29.53,-240.61 h28
  text "39" at 29.53,207.01 h28
  text "38" at 49.21,207.01 h28
  text "36" at 88.58,207.01 h28
  text "60" at -229.41,-91.3 h28
  text "6" at -49.21,-240.61 h28
  text "61" at -229.41,-110.98 h28
  text "62" at -229.41,-130.67 h28
  text "63" at -229.41,-150.35 h28
  text "3" at -108.27,-240.61 h28
  text "2" at -127.95,-240.61 h28
  text "24" at 229.41,-32.24 h28
  text "23" at 229.41,-51.93 h28
  text "22" at 229.41,-71.61 h28
  text "35" at 108.27,207.01 h28
  text "5" at -68.9,-240.61 h28
  text "11" at 49.21,-251.81 h28
  text "1" at -147.64,-240.61 h28
  text "10" at 29.53,-251.81 h28
  text "13" at 88.58,-251.81 h28
  text "15" at 127.95,-251.81 h28
  text "47" at -127.95,207.01 h28
  text "51" at -229.41,85.87 h28
  text "25" at 229.41,-12.56 h28
  text "21" at 229.41,-91.3 h28
  text "19" at 229.41,-130.67 h28
  text "18" at 229.41,-150.35 h28
  text "16" at 147.64,-251.81 h28
  text "17" at 229.41,-170.04 h28
  text "59" at -229.41,-71.61 h28
  text "58" at -229.41,-51.93 h28
  text "57" at -229.41,-32.24 h28
  text "55" at -229.41,7.13 h28
  text "54" at -229.41,26.81 h28
  text "53" at -229.41,46.5 h28
  text "52" at -229.41,66.18 h28
  text "48" at -147.64,207.01 h28
  text "46" at -108.27,207.01 h28
  text "45" at -88.58,207.01 h28
  text "44" at -68.9,207.01 h28
  text "43" at -49.21,207.01 h28
  text "41" at -9.84,207.01 h28
  text "40" at 9.84,207.01 h28
  text "34" at 127.95,207.01 h28
  text "33" at 147.64,207.01 h28
  text "26" at 229.41,7.13 h28
  text "27" at 229.41,26.81 h28
  text "28" at 229.41,46.5 h28
  text "29" at 229.41,66.18 h28
  text "30" at 229.41,85.87 h28
  text "32" at 229.41,125.24 h28
Mechanical 16:
  drawing of 278 lines, arcs and shapes, not listed
Mechanical 17:
  text "19.69" at -461,-495 h36
  text "0.5" at -410,-395 h36
Mechanical 21:
  text ".Designator" at 34.34,-17.4 h28
3D body: height 150, standoff 0, extent -236.33,-236.33 236.33,236.33

## QFP_80P_20_551X551 [mil] "QFP_80P_20_551X551"
pads (80):
  oval 11x54 smd: 1(-187.01,-268.78) 2(-167.32,-268.78) 3(-147.64,-268.78) 4(-127.95,-268.78) 5(-108.27,-268.78) 6(-88.58,-268.78) 7(-68.9,-268.78) 8(-49.21,-268.78) 9(-29.53,-268.78) 10(-9.84,-268.78) 11(9.84,-268.78) 12(29.53,-268.78) 13(49.21,-268.78) 14(68.9,-268.78) 15(88.58,-268.78) 16(108.27,-268.78) 17(127.95,-268.78) 18(147.64,-268.78) 19(167.32,-268.78) 20(187.01,-268.78) 41(187.01,268.78) 42(167.32,268.78) 43(147.64,268.78) 44(127.95,268.78) 45(108.27,268.78) 46(88.58,268.78) 47(68.9,268.78) 48(49.21,268.78) 49(29.53,268.78) 50(9.84,268.78) 51(-9.84,268.78) 52(-29.53,268.78) 53(-49.21,268.78) 54(-68.9,268.78) 55(-88.58,268.78) 56(-108.27,268.78) 57(-127.95,268.78) 58(-147.64,268.78) 59(-167.32,268.78) 60(-187.01,268.78)
  oval 54x11 smd: 21(268.78,-187.01) 22(268.78,-167.32) 23(268.78,-147.64) 24(268.78,-127.95) 25(268.78,-108.27) 26(268.78,-88.58) 27(268.78,-68.9) 28(268.78,-49.21) 29(268.78,-29.53) 30(268.78,-9.84) 31(268.78,9.84) 32(268.78,29.53) 33(268.78,49.21) 34(268.78,68.9) 35(268.78,88.58) 36(268.78,108.27) 37(268.78,127.95) 38(268.78,147.64) 39(268.78,167.32) 40(268.78,187.01) 61(-268.78,187.01) 62(-268.78,167.32) 63(-268.78,147.64) 64(-268.78,127.95) 65(-268.78,108.27) 66(-268.78,88.58) 67(-268.78,68.9) 68(-268.78,49.21) 69(-268.78,29.53) 70(-268.78,9.84) 71(-268.78,-9.84) 72(-268.78,-29.53) 73(-268.78,-49.21) 74(-268.78,-68.9) 75(-268.78,-88.58) 76(-268.78,-108.27) 77(-268.78,-127.95) 78(-268.78,-147.64) 79(-268.78,-167.32) 80(-268.78,-187.01)
Top Overlay:
  lines w10: -343.78,-187.01 -303.78,-187.01 ; -343.78,9.84 -303.78,9.84 ; -323.78,-88.58 -303.78,-88.58 ; -323.78,108.27 -303.78,108.27 ; -187.01,303.78 -187.01,343.78 ; -108.27,-323.78 -108.27,-303.78 ; -88.58,303.78 -88.58,323.78 ; -9.84,-343.78 -9.84,-303.78 ; 9.84,303.78 9.84,343.78 ; 88.58,-323.78 88.58,-303.78 ; 108.27,303.78 108.27,323.78 ; 187.01,-343.78 187.01,-303.78 ; 303.78,-108.27 323.78,-108.27 ; 303.78,-9.84 343.78,-9.84 ; 303.78,88.58 323.78,88.58 ; 303.78,187.01 343.78,187.01 ; -303.78,-264.41 -264.41,-303.78 293.78,-303.78 303.78,-303.78 303.78,293.78 303.78,303.78 -303.78,303.78 -303.78,-264.41 ; -205,-320 -187.01,-303.78 -175,-320 -205,-320
  text ".Designator" at -355,242.4 h36
  text "60" at -280,311.2 h36
  text "41" at 62,311.2 h36
  text "21" at 320,-140 h36
  text "40" at 335,175 h36
  text "20" at 325,-373.8 h36
  text "1" at -250,-339.4 h36
  text "80" at -319.4,-283.98 h36
  text "61" at -350,102.4 h36
Mechanical 15:
  text "38" at 268.78,125.24 h28
  text "35" at 268.78,66.18 h28
  text "34" at 268.78,46.5 h28
  text "42" at 167.32,246.38 h28
  text "44" at 127.95,246.38 h28
  text "45" at 108.27,246.38 h28
  text "46" at 88.58,246.38 h28
  text "17" at 127.95,-291.18 h28
  text "47" at 68.9,246.38 h28
  text "48" at 49.21,246.38 h28
  text "52" at -29.53,246.38 h28
  text "53" at -49.21,246.38 h28
  text "54" at -68.9,246.38 h28
  text "10" at -9.84,-291.18 h28
  text "9" at -29.53,-279.98 h28
  text "8" at -49.21,-279.98 h28
  text "7" at -68.9,-279.98 h28
  text "6" at -88.58,-279.98 h28
  text "58" at -147.64,246.38 h28
  text "59" at -167.32,246.38 h28
  text "60" at -187.01,246.38 h28
  text "5" at -108.27,-279.98 h28
  text "4" at -127.95,-279.98 h28
  text "3" at -147.64,-279.98 h28
  text "2" at -167.32,-279.98 h28
  text "1" at -187.01,-279.98 h28
  text "61" at -268.78,164.61 h28
  text "62" at -268.78,144.92 h28
  text "63" at -268.78,125.24 h28
  text "64" at -268.78,105.55 h28
  text "65" at -268.78,85.87 h28
  text "66" at -268.78,66.18 h28
  text "69" at -268.78,7.13 h28
  text "70" at -268.78,-12.56 h28
  text "77" at -268.78,-150.35 h28
  text "78" at -268.78,-170.04 h28
  text "79" at -268.78,-189.72 h28
  text "80" at -268.78,-209.41 h28
  text "50" at 9.84,246.38 h28
  text "68" at -268.78,26.81 h28
  text "30" at 268.78,-32.24 h28
  text "15" at 88.58,-291.18 h28
  text "12" at 29.53,-291.18 h28
  text "28" at 268.78,-71.61 h28
  text "32" at 268.78,7.13 h28
  text "18" at 147.64,-291.18 h28
  text "19" at 167.32,-291.18 h28
  text "20" at 187.01,-291.18 h28
  text "21" at 268.78,-209.41 h28
  text "22" at 268.78,-189.72 h28
  text "24" at 268.78,-150.35 h28
  text "27" at 268.78,-91.3 h28
  text "29" at 268.78,-51.93 h28
  text "26" at 268.78,-110.98 h28
  text "13" at 49.21,-291.18 h28
  text "14" at 68.9,-291.18 h28
  text "49" at 29.53,246.38 h28
  text "11" at 9.84,-291.18 h28
  text "39" at 268.78,144.92 h28
  text "40" at 268.78,164.61 h28
  text "23" at 268.78,-170.04 h28
  text "33" at 268.78,26.81 h28
  text "25" at 268.78,-130.67 h28
  text "37" at 268.78,105.55 h28
  text "36" at 268.78,85.87 h28
  text "55" at -88.58,246.38 h28
  text "57" at -127.95,246.38 h28
  text "56" at -108.27,246.38 h28
  text "41" at 187.01,246.38 h28
  text "67" at -268.78,46.5 h28
  text "51" at -9.84,246.38 h28
  text "16" at 108.27,-291.18 h28
  text "31" at 268.78,-12.56 h28
  text "43" at 147.64,246.38 h28
  text "74" at -268.78,-91.3 h28
  text "73" at -268.78,-71.61 h28
  text "76" at -268.78,-130.67 h28
  text "71" at -268.78,-32.24 h28
  text "72" at -268.78,-51.93 h28
  text "75" at -268.78,-110.98 h28
Mechanical 16:
  drawing of 374 lines, arcs and shapes, not listed
Mechanical 17:
  text "472.44" at -796.5,375 h36
  text "12" at -694.5,475 h36
  text "472.44" at 693.5,-675 h36
  text "12" at 795.5,-575 h36
  text "19.69" at -471,-605 h36
  text "0.5" at -420,-505 h36
3D body: height 150, standoff 0, extent -275.7,-275.7 275.7,275.7

## R0402 [mil] "R0402"
pads (2):
  oval 15x28 smd: 1(-17.72,0) 2(17.72,0)
Top Overlay:
  lines w10: -33.22,-22 -33.22,22 33.22,22 33.22,-22 -33.22,-22
Mechanical 15:
  text "2" at 17.72,11.2 h28
  text "1" at -17.72,11.2 h28
Mechanical 16:
  pour cut-out: -34.53,-22.72 34.53,-22.72 34.53,22.72 -34.53,22.72
  region: -29.53,-17.72 29.53,-17.72 29.53,17.72 -29.53,17.72
  lines w1: -29.53,-17.72 -29.53,17.72 29.53,17.72 29.53,-17.72 -29.53,-17.72
3D body: height 150, standoff 0, extent -29.53,-17.72 29.53,17.72

## R0603 [mil] "R0603"
pads (2):
  oval 40x35 smd: 1(0,32.5) 2(0,-32.5)
Top Overlay:
  lines w10: -28,-58 28,-58 28,58 -28,58 -28,-58
Mechanical 15:
  text "1" at -11.2,32.5 h28
  text "2" at -11.2,-32.5 h28
Mechanical 16:
  lines w1: -17.72,-33.46 17.72,-33.46 ; -17.72,-33.46 -17.72,33.46 ; -17.72,-33.46 17.72,-33.46 ; -17.72,-33.46 -17.72,33.46 ; -17.72,33.46 17.72,33.46 ; -17.72,33.46 17.72,33.46 ; 17.72,-33.46 17.72,33.46 ; 17.72,-33.46 17.72,33.46 ; -28,-58 28,-58 28,58 -28,58 -28,-58

## R1206 [mil] "R1206"
pads (2):
  oval 90x70 smd: 1(0,60) 2(0,-60)
Top Overlay:
  lines w10: -53,-103 -53,103 53,103 53,-103 -53,-103
Mechanical 15:
  text "2" at 0,-48.8 h28
  text "1" at 0,71.2 h28
Mechanical 16:
  pour cut-out: -53,-103 -53,103 53,103 53,-103
  region: -32.48,-62.99 -32.48,62.99 32.48,62.99 32.48,-62.99
  lines w1: -560,-375 -579,-375 -579,-325 -560,-325 ; -280,-375 -261,-375 -261,-325 -280,-325 ; -223.5,-300 -32.48,-300 ; -32.48,-398.43 -32.48,-161.42 ; 32.48,-398.43 32.48,-161.42 ; 130.91,-62.99 578.43,-62.99 ; 130.91,62.99 578.43,62.99 ; 314.5,-495 295.5,-495 295.5,-445 314.5,-445 ; 347.44,-300 32.48,-300 ; 480,-307.5 480,-62.99 ; 480,377.95 480,62.99 ; 645.5,-495 664.5,-495 664.5,-445 645.5,-445 ; -32.48,-300 -189.96,-324.6 -189.96,-275.4 -32.48,-300 ; 32.48,-300 189.96,-275.4 189.96,-324.6 32.48,-300 ; 480,-62.99 504.6,-220.47 455.4,-220.47 480,-62.99 ; 480,62.99 455.4,220.47 504.6,220.47 480,62.99 ; -32.48,-62.99 -32.48,62.99 32.48,62.99 32.48,-62.99 -32.48,-62.99
Mechanical 17:
  text "1.65" at -515.5,-275 h36
  text "64.96" at -541,-375 h36
  text "3.2" at 410,-395 h36
  text "125.98" at 333.5,-495 h36
3D body: height 150, standoff 0, extent -32.48,-62.99 32.48,62.99

## RJ45_17P_101112FHBMAM404ZA [mil] "RJ45_17P_101112FHBMAM404ZA"
pads (21):
  rect 51x51 / inner rect 47x47 / far side rect 51x51 hole 35: 1(200.79,259.84)
  round 51 / inner round 47 / far side round 51 hole 35: 2(120.47,259.84) 3(40.16,259.84) 4(-40.16,259.84) 5(-120.47,259.84) 6(-200.79,259.84) 7(240.94,359.84) 8(160.63,359.84) 9(80.31,359.84) 10(-80.31,359.84) 11(-160.63,359.84) 12(-240.94,359.84)
  round 80 / inner round 62 / far side round 80 hole 50: 13(296.06,-250) 14(296.06,-350) 15(-296.06,-150) 16(-296.06,-250) 17(-296.06,-350)
  round 130 hole 130: H1(-189.96,0) H2(189.96,0)
  round 92 / inner round 74 / far side round 92 hole 62: H3(-346.06,0) H4(346.06,0)
Top Overlay:
  lines w10: -400.06,-54 -400.06,54 -354.21,54 -354.21,432.17 354.21,432.17 354.21,54 400.06,54 400.06,-54 354.21,-54 354.21,-532.56 -354.21,-532.56 -354.21,-54 -400.06,-54
Mechanical 15:
  text "14" at 296.06,-372.4 h28
  text "16" at -296.06,-272.4 h28
  text "7" at 240.94,348.64 h28
  text "1" at 200.79,248.64 h28
  text "12" at -240.94,337.44 h28
  text "6" at -200.79,248.64 h28
  text "15" at -296.06,-172.4 h28
  text "17" at -296.06,-372.4 h28
  text "8" at 160.63,348.64 h28
  text "9" at 80.31,348.64 h28
  text "3" at 40.16,248.64 h28
  text "2" at 120.47,248.64 h28
  text "4" at -40.16,248.64 h28
  text "5" at -120.47,248.64 h28
  text "11" at -160.63,337.44 h28
  text "10" at -80.31,337.44 h28
  text "13" at 296.06,-272.4 h28
  text "H4" at 346.06,-22.4 h28
  text "H3" at -346.06,-22.4 h28
  text "H1" at -189.96,-22.4 h28
  text "H2" at 189.96,-22.4 h28
Mechanical 16:
  drawing of 150 lines, arcs and shapes, not listed
Multi-Layer keep-out:
  circle w1: c189.96,0 r75
  circle w1: c-189.96,0 r75
Mechanical 17:
  text "100.00" at -706.5,145 h36
  text "2.54" at -655.5,245 h36
  text "350.00" at -1196.5,-255 h36
  text "8.89" at -1145.5,-155 h36
  text "100.00" at 843.5,655 h36
  text "2.54" at 894.5,755 h36
  text "359.84" at 423.5,655 h36
  text "9.14" at 474.5,755 h36
  text "481.89" at -886.5,745 h36
  text "12.24" at -861,845 h36
  text "401.57" at -876.5,515 h36
  text "10.2" at -825.5,615 h36
  text "692.13" at -896.5,-1055 h36
  text "17.58" at -871,-955 h36
  text "592.13" at -896.5,-855 h36
  text "15.04" at -871,-755 h36
  text "379.92" at -886.5,-655 h36
  text "9.65" at -835.5,-555 h36
Mechanical 21:
  text ".Designator" at 24.99,-93.64 h28
3D body: height 150, standoff 0, extent -437.8,-527.56 437.8,427.17

## SC-70_5P [mil] "SC-70_5P"
pads (5):
  oval 14x44 smd: 1(-25.59,-39.25) 2(0,-39.25) 3(25.59,-39.25) 4(25.59,39.25) 5(-25.59,39.25)
Top Overlay:
  lines w10: -47.32,-69.25 -47.32,64.25 -47.32,69.25 42.32,69.25 47.32,69.25 47.32,-64.25 47.32,-69.25 -42.32,-69.25 -47.32,-69.25 ; -40.59,-89.25 -10.59,-89.25 -25.59,-74.25 -40.59,-89.25
  text ".Designator" at -145.2,-23 h36
Mechanical 15:
  text "3" at 15.59,-39.25 h25
  text "4" at 15.59,39.25 h25
  text "2" at -10,-39.25 h25
  text "5" at -35.59,39.25 h25
  text "1" at -35.59,-39.25 h25
Mechanical 16:
  pour cut-out: 40.59,69.25 40.59,29.61 47.32,29.61 47.32,-29.61 40.59,-29.61 40.59,-69.25 -40.59,-69.25 -40.59,-29.61 -47.32,-29.61 -47.32,29.61 -40.59,29.61 -40.59,69.25
  region: -32.59,-41.25 -32.59,-24.61 -42.32,-24.61 -42.32,24.61 -32.59,24.61 -32.59,41.25 -18.59,41.25 -18.59,24.61 18.59,24.61 18.59,41.25 32.59,41.25 32.59,24.61 42.32,24.61 42.32,-24.61 32.59,-24.61 32.59,-41.25 18.59,-41.25 18.59,-24.61 7,-24.61 7,-41.25 -7,-41.25 -7,-24.61 -18.59,-24.61 -18.59,-41.25
  lines w1: -42.32,-24.61 42.32,-24.61 42.32,24.61 -42.32,24.61 -42.32,-24.61 ; -32.59,-41.25 -18.59,-41.25 -18.59,-27.08 -32.59,-27.08 -32.59,-41.25 ; -32.59,27.08 -18.59,27.08 -18.59,41.25 -32.59,41.25 -32.59,27.08 ; -7,-41.25 7,-41.25 7,-27.08 -7,-27.08 -7,-41.25 ; 18.59,-41.25 32.59,-41.25 32.59,-27.08 18.59,-27.08 18.59,-41.25 ; 18.59,27.08 32.59,27.08 32.59,41.25 18.59,41.25 18.59,27.08
3D body: height 150, standoff 0, extent -42.32,-41.25 42.32,41.25

## SOCKET841_CSBGA841 [mil] "SOCKET841_CSBGA841"
pads (6):
  round 236 / inner round 137 / far side round 236 hole 125: 1(-586.22,-586.22) 2(586.22,-586.22) 3(-586.22,586.22) 4(586.22,586.22)
  round 98 / inner round 76 / far side round 98 hole 64: 5(403.54,-586.22) 6(-403.54,586.22)
Top Overlay:
  lines w10: -538.74,-260.35 -704.53,-426.14 -704.53,-665.16 ccw(c-665.16,-665.16) -665.16,-704.53 -426.14,-704.53 -265.34,-543.73 ; -536.66,258.27 -704.53,426.14 -704.53,665.16 cw(c-665.16,665.16) -665.16,704.53 -426.14,704.53 -265.76,544.15 ; 265.85,-544.23 426.14,-704.53 665.16,-704.53 ccw(c665.16,-665.16) 704.53,-665.16 704.53,-426.14 546.74,-268.35 ; 266.26,544.65 426.14,704.53 665.16,704.53 cw(c665.16,665.16) 704.53,665.16 704.53,426.14 544.66,266.27
  text ".Designator" at -57.1,-581.58 h36
Bottom Overlay:
  lines w10: -704.53,-665.16 ccw(c-665.16,-665.16) -665.16,-704.53 -426.14,-704.53 -242.61,-521 cw(c-196.67,-566.94) -196.67,-501.97 196.68,-501.97 cw(c196.68,-566.94) 242.62,-521 426.14,-704.53 665.16,-704.53 ccw(c665.16,-665.16) 704.53,-665.16 704.53,-426.14 521,-242.61 cw(c566.94,-196.67) 501.97,-196.67 501.97,196.67 cw(c566.94,196.67) 521,242.61 704.53,426.14 704.53,665.16 ccw(c665.16,665.16) 665.16,704.53 426.14,704.53 242.61,521 cw(c196.67,566.94) 196.67,501.97 -196.67,501.97 cw(c-196.67,566.94) -242.61,521 -426.14,704.53 -665.16,704.53 ccw(c-665.16,665.16) -704.53,665.16 -704.53,426.14 -521,242.61 cw(c-566.94,196.67) -501.97,196.67 -501.97,-196.67 cw(c-566.94,-196.67) -521,-242.61 -704.53,-426.14 -704.53,-665.16 ; -295.28,-255.91 ccw(c-255.91,-255.91) -255.91,-295.28 255.91,-295.28 ccw(c255.91,-255.91) 295.28,-255.91 295.28,255.91 ccw(c255.91,255.91) 255.91,295.28 -255.91,295.28 ccw(c-255.91,255.91) -295.28,255.91 -295.28,-255.91
Mechanical 15:
  text "1" at -596.22,-586.22 h25
  text "3" at -596.22,586.22 h25
  text "6" at -413.54,586.22 h25
  text "5" at 393.54,-586.22 h25
  text "2" at 576.22,-586.22 h25
  text "4" at 576.22,586.22 h25
Mechanical 16:
  drawing of 1151 lines, arcs and shapes, not listed
Mechanical 17:
  text "15" at -44.5,-405 h50
  text "590.55" at -146.5,-505 h50
  text "15" at 515.5,35 h50
  text "590.55" at 413.5,-65 h50
  text "20.5" at -1225.5,-825 h50
  text "807.08" at -1276.5,-925 h50
  text "29.78" at -1301,-1045 h50
  text "1172.44" at -1352,-1145 h50
  text "29.78" at 969,-45 h50
  text "1172.44" at 918,-145 h50
  text "35.79" at -1271,-1285 h50
  text "1409.06" at -1322,-1385 h50
  text "35.79" at 1459,145 h50
  text "1409.06" at 1408,45 h50
3D body: height 150, standoff 0, extent -704.53,-704.53 704.53,704.53
3D body: height 150, standoff 0, extent -704.53,-704.53 704.53,704.53

## SOD-323 [mil] "SOD-323"
pads (2):
  oval 17x38 smd: 1(0,-50.28) 2(0,50.28)
Top Overlay:
  lines w10: -30,77.28 35,77.28 ; -30,82.28 35,82.28 35,92.28 -35,92.28 -35,87.28 ; -20,15 20,15 ; -35,87.28 -35,-77.28 35,-77.28 35,87.28 -35,87.28 ; -20,-12 20,-12 0,11 -20,-12
Mechanical 15:
  text "1" at -11.2,-50.28 h28
  text "2" at -11.2,50.28 h28
Mechanical 16:
  pour cut-out: -35,-77.28 -35,92.28 35,92.28 35,-77.28
  region: 6.8,49.28 6.8,33.46 24.61,33.46 24.61,-33.46 6.8,-33.46 6.8,-49.28 -6.8,-49.28 -6.8,-33.46 -24.61,-33.46 -24.61,33.46 -6.8,33.46 -6.8,49.28
  lines w1: -24.61,-33.46 -24.61,33.46 24.61,33.46 24.61,-33.46 -24.61,-33.46 ; -6.8,-49.28 6.8,-49.28 6.8,-41.4 -6.8,-41.4 -6.8,-49.28 ; -6.8,41.4 6.8,41.4 6.8,49.28 -6.8,49.28 -6.8,41.4
3D body: height 150, standoff 0, extent -24.61,-49.28 24.61,49.28